# EAGLE library part MFS201N-16-Z (library quad)
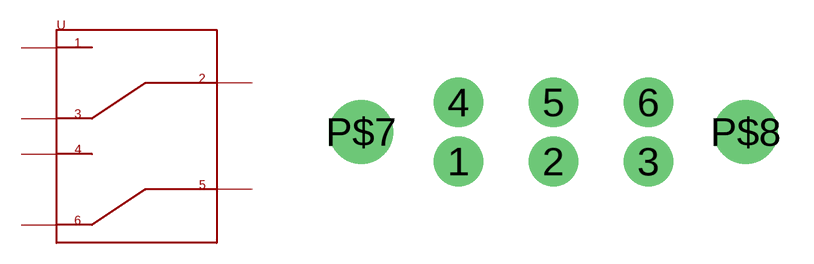
[diagram p7: symbol with the pads of MFS201N-16-Z; footprint MFS201N-16-Z]

Designator prefix -

## MFS201N-16-Z  [MFS201N-16-Z]
1  1
2  2
3  3
4  4
5  5
6  6

## Footprint MFS201N-16-Z (pad centres in mm)
drill 1.4: 1 -4,-1.25; 2 0,-1.25; 3 4,-1.25; 4 -4,1.25; 5 0,1.25; 6 4,1.25
drill 1.8: P$7 -8.1,0; P$8 8.1,0